# EAGLE library part STLVDS050 (library ruark2)
2/2 Transceiver Full LVDS 16-SO
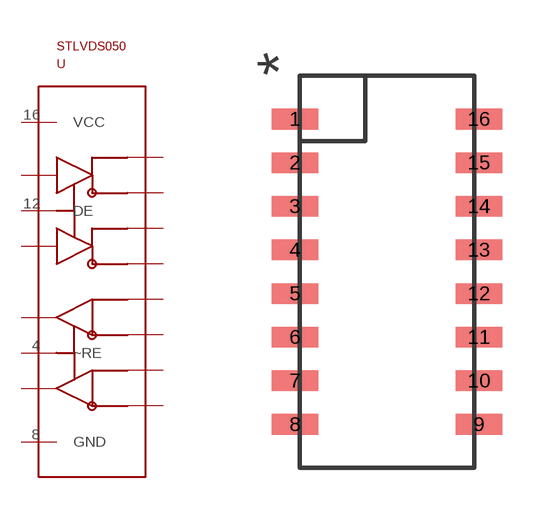
[diagram p29: symbol with the pads of SO16; footprint SO16]

Designator prefix U

## STLVDS050 (PARTNO: 497-2147-1-ND)  [SO16]
1  1B
2  1A
3  1R
4  ~RE
5  2R
6  2A
7  2B
8  GND
9  2D
10  2Y
11  2Z
12  DE
13  1Z
14  1Y
15  1D
16  VCC

## Footprint SO16 (pad centres in mm)
smd 1.35 x 0.6: 1 -2.215,5.62; 2 -2.215,4.35; 3 -2.215,3.08; 4 -2.215,1.81; 5 -2.215,0.54; 6 -2.215,-0.73; 7 -2.215,-2; 8 -2.215,-3.27; 9 3.135,-3.27; 10 3.135,-2; 11 3.135,-0.73; 12 3.135,0.54; 13 3.135,1.81; 14 3.135,3.08; 15 3.135,4.35; 16 3.135,5.62